# Altium footprint library MLACHT_Z.PCBLIB: 150 footprints (part 9 of 10)
Each footprint in its own frame and in the unit in brackets; x right, y up, seen from the top. Pads: shape width x height; smd on the part's side, far side on the other; paste and mask are expansions set on the pad; w line width, h text height; cw(c..) or ccw(c..) is an arc to the next point about the centre after c.
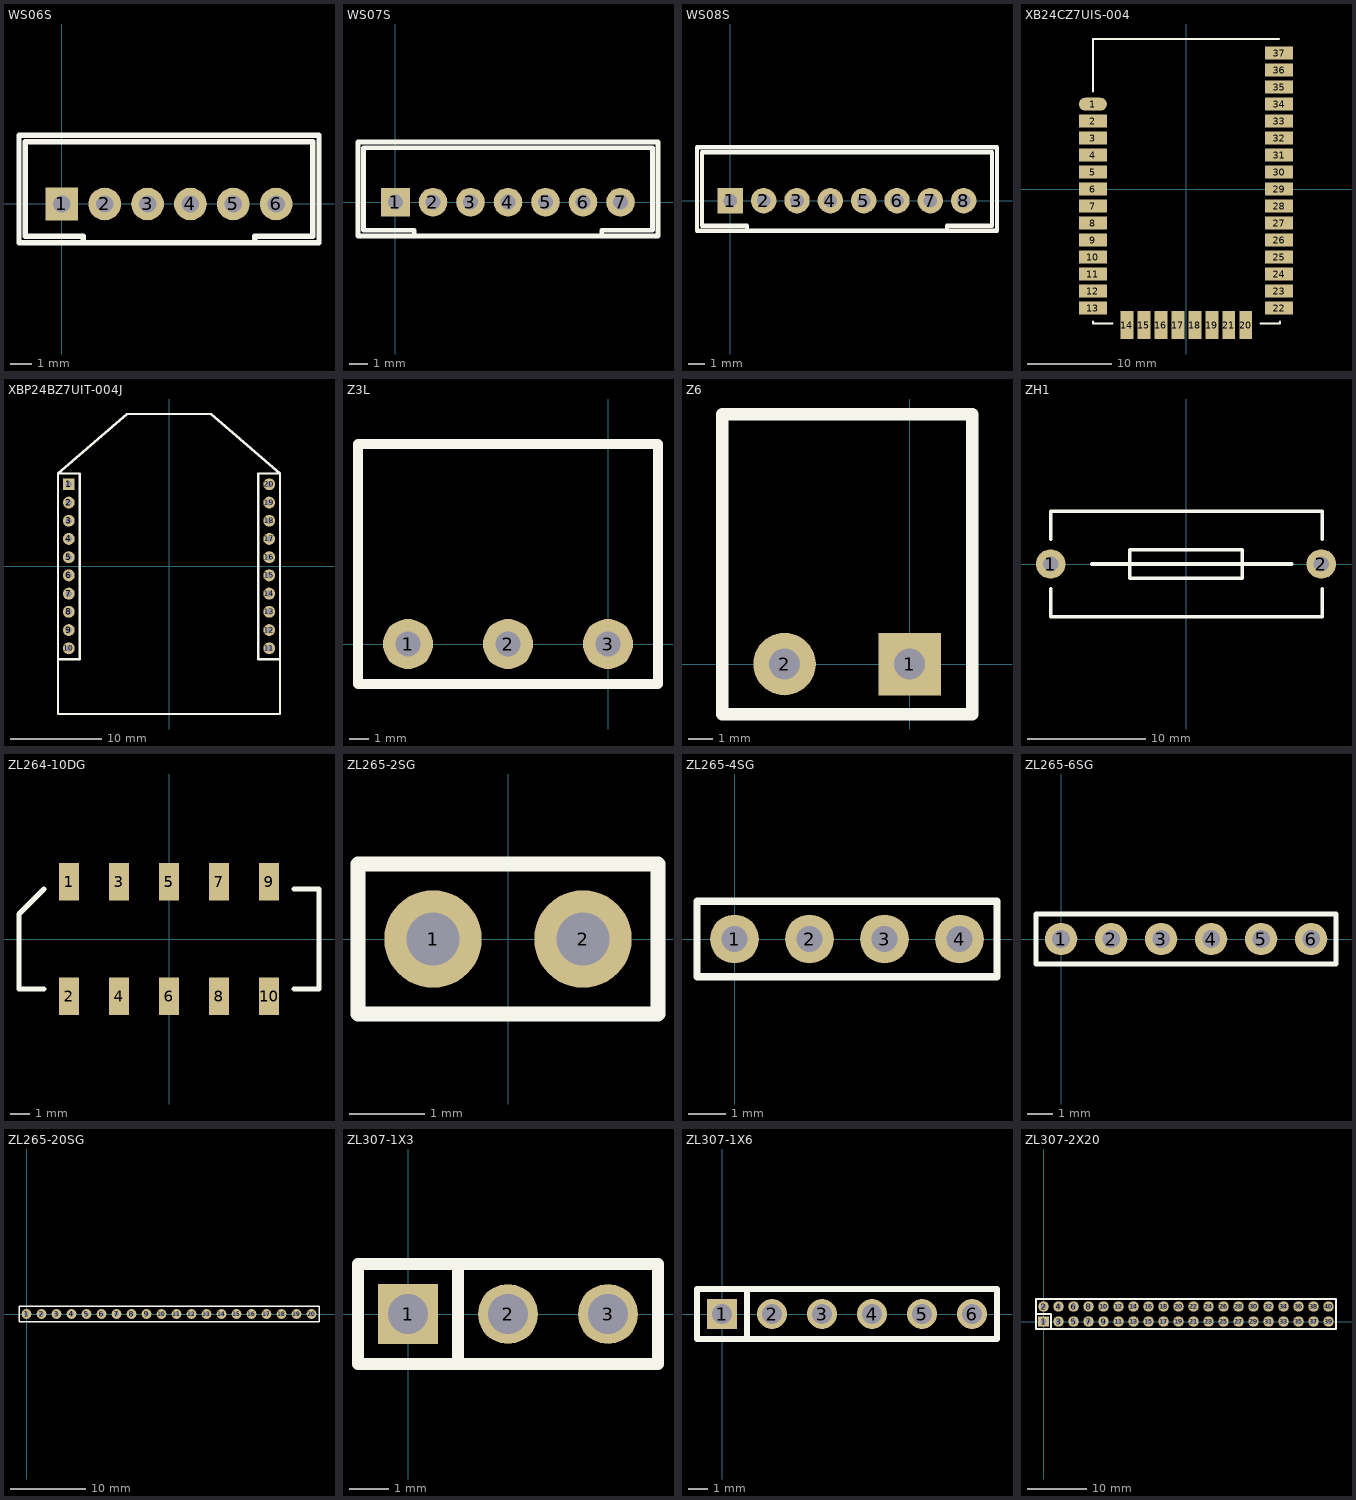
[diagram p8: the footprints below, top view; thin cyan lines are the x and y axes]

## WS06S [mil]
pads (6):
  rect 60x60 hole 32: 1(0,0)
  round 60 hole 32: 2(78.74,0) 3(157.48,0) 4(236.22,0) 5(314.96,0) 6(393.7,0)
TopOverlay:
  lines w10: 39.37,-70.87 39.37,-59.05 -66.93,-59.05 -66.93,114.17 460.63,114.17 460.63,-59.05 354.33,-59.05 354.33,-70.87 ; -78.74,-70.87 472.44,-70.87 472.44,125.98 -78.74,125.98 -78.74,-70.87
3D body: height 228.35, standoff 0, extent 383.86,-9.84 403.54,9.84
3D body: height 228.35, standoff 0, extent 305.12,-9.84 324.8,9.84
3D body: height 228.35, standoff 0, extent 226.38,-9.84 246.06,9.84
3D body: height 228.35, standoff 0, extent 147.64,-9.84 167.32,9.84
3D body: height 228.35, standoff 0, extent 68.9,-9.84 88.58,9.84
3D body: height 228.35, standoff 0, extent -9.84,-9.84 9.84,9.84
3D body: height 236.22, standoff 0, extent -78.74,-70.87 472.44,125.98
3D body: height 78.74, standoff 0, extent -78.74,-70.87 472.44,125.98

## WS07S [mil]
pads (7):
  rect 60x60 hole 32: 1(0,0)
  round 60 hole 32: 2(78.74,0) 3(157.48,0) 4(236.22,0) 5(314.96,0) 6(393.7,0) 7(472.44,0)
TopOverlay:
  lines w10: 39.37,-70.87 39.37,-59.05 -66.93,-59.05 -66.93,114.17 539.37,114.17 539.37,-59.05 433.07,-59.05 433.07,-70.87 ; -78.74,-70.87 551.18,-70.87 551.18,125.98 -78.74,125.98 -78.74,-70.87
3D body: height 228.35, standoff 0, extent 462.6,-9.84 482.28,9.84
3D body: height 228.35, standoff 0, extent 383.86,-9.84 403.54,9.84
3D body: height 228.35, standoff 0, extent 305.12,-9.84 324.8,9.84
3D body: height 228.35, standoff 0, extent 226.38,-9.84 246.06,9.84
3D body: height 228.35, standoff 0, extent 147.64,-9.84 167.32,9.84
3D body: height 228.35, standoff 0, extent 68.9,-9.84 88.58,9.84
3D body: height 228.35, standoff 0, extent -9.84,-9.84 9.84,9.84
3D body: height 236.22, standoff 0, extent -78.74,-70.87 551.18,125.98
3D body: height 78.74, standoff 0, extent -78.74,-70.87 551.18,125.98

## WS08S [mil]
pads (8):
  rect 60x60 hole 32: 1(0,0)
  round 60 hole 32: 2(78.74,0) 3(157.48,0) 4(236.22,0) 5(314.96,0) 6(393.7,0) 7(472.44,0) 8(551.18,0)
TopOverlay:
  lines w10: 39.37,-70.87 39.37,-59.05 -66.93,-59.05 -66.93,114.17 618.11,114.17 618.11,-59.05 511.81,-59.05 511.81,-70.87 ; -78.74,-70.87 629.92,-70.87 629.92,125.98 -78.74,125.98 -78.74,-70.87
3D body: height 228.35, standoff 0, extent 541.34,-9.84 561.02,9.84
3D body: height 228.35, standoff 0, extent 462.6,-9.84 482.28,9.84
3D body: height 228.35, standoff 0, extent 383.86,-9.84 403.54,9.84
3D body: height 228.35, standoff 0, extent 305.12,-9.84 324.8,9.84
3D body: height 228.35, standoff 0, extent 226.38,-9.84 246.06,9.84
3D body: height 228.35, standoff 0, extent 147.64,-9.84 167.32,9.84
3D body: height 228.35, standoff 0, extent 68.9,-9.84 88.58,9.84
3D body: height 228.35, standoff 0, extent -9.84,-9.84 9.84,9.84
3D body: height 236.22, standoff 0, extent -78.74,-70.87 629.92,125.98
3D body: height 78.74, standoff 0, extent -78.74,-70.87 629.92,125.98

## XB24CZ7UIS-004 [mil]
pads (37):
  oval 130x60 smd: 1(-433,395)
  rect 130x60 smd: 2(-433,316) 3(-433,237) 4(-433,158) 5(-433,79) 6(-433,0) 7(-433,-79) 8(-433,-158) 9(-433,-237) 10(-433,-316) 11(-433,-395) 12(-433,-474) 13(-433,-553) 22(433,-553) 23(433,-474) 24(433,-395) 25(433,-316) 26(433,-237) 27(433,-158) 28(433,-79) 29(433,0) 30(433,79) 31(433,158) 32(433,237) 33(433,316) 34(433,395) 35(433,474) 36(433,553) 37(433,632)
  rect 60x130 smd: 14(-275,-632) 15(-196,-632) 16(-117,-632) 17(-38,-632) 18(41,-632) 19(120,-632) 20(278,-632) 21(199,-632)
TopOverlay:
  lines w10: -433,-615.5 -433,-625.5 -343,-625.5 ; -433,454.5 -433,698 433,698 ; 347,-625.5 437,-625.5 437,-615.5
3D body: height 39.37, standoff 0, extent -433,-625.5 437,704.5
3D body: height 120, standoff 39.37, extent -368,-560.5 372,394.5

## XBP24BZ7UIT-004J [mm]
pads (20):
  rect 1.3x1.3 hole 0.7: 1(-11,9)
  round 1.3 hole 0.7: 2(-11,7) 3(-11,5) 4(-11,3) 5(-11,1) 6(-11,-1) 7(-11,-3) 8(-11,-5) 9(-11,-7) 10(-11,-9) 11(11,-9) 12(11,-7) 13(11,-5) 14(11,-3) 15(11,-1) 16(11,1) 17(11,3) 18(11,5) 19(11,7) 20(11,9)
TopOverlay:
  lines w0.254: -12.192,-10.21 -9.792,-10.21 -9.792,10.19 -12.192,10.19 ; 12.192,-10.21 9.792,-10.21 9.792,10.19 12.192,10.19 ; -12.192,10.19 -4.602,16.72 4.602,16.72 12.192,10.19 ; -12.192,10.19 -12.192,-16.22 12.192,-16.22 12.192,10.19
3D body: height 2, standoff 0, extent -12.092,-10.21 -9.692,10.19
3D body: height 2, standoff 0, extent 9.692,-10.21 12.092,10.19
3D body: height 2, standoff 0, extent -12.192,-10.21 -9.792,10.19
3D body: height 2.79, standoff 2, extent -12.192,-16.22 12.192,16.72
3D body: height 0, standoff -4.06, extent -11.3,8.7 -10.7,9.3
3D body: height 0, standoff -4.06, extent -11.3,6.7 -10.7,7.3
3D body: height 0, standoff -4.06, extent -11.3,4.7 -10.7,5.3
3D body: height 0, standoff -4.06, extent -11.3,2.7 -10.7,3.3
3D body: height 0, standoff -4.06, extent -11.3,0.7 -10.7,1.3
3D body: height 0, standoff -4.06, extent -11.3,-1.3 -10.7,-0.7
3D body: height 0, standoff -4.06, extent -11.3,-3.3 -10.7,-2.7
3D body: height 0, standoff -4.06, extent -11.3,-5.3 -10.7,-4.7
3D body: height 0, standoff -4.06, extent -11.3,-7.3 -10.7,-6.7
3D body: height 0, standoff -4.06, extent -11.3,-9.3 -10.7,-8.7
3D body: height 0, standoff -4.06, extent 10.7,-9.3 11.3,-8.7
3D body: height 0, standoff -4.06, extent 10.7,-7.3 11.3,-6.7
3D body: height 0, standoff -4.06, extent 10.7,-5.3 11.3,-4.7
3D body: height 0, standoff -4.06, extent 10.7,-3.3 11.3,-2.7
3D body: height 0, standoff -4.06, extent 10.7,-1.3 11.3,-0.7
3D body: height 0, standoff -4.06, extent 10.7,0.7 11.3,1.3
3D body: height 0, standoff -4.06, extent 10.7,2.7 11.3,3.3
3D body: height 0, standoff -4.06, extent 10.7,4.7 11.3,5.3
3D body: height 0, standoff -4.06, extent 10.7,6.7 11.3,7.3
3D body: height 0, standoff -4.06, extent 10.7,8.7 11.3,9.3

## Z3L [mil]
pads (3):
  round 100 hole 50: 1(-400,0) 2(-200,0) 3(0,0)
TopOverlay:
  lines w20: -500,-80 100,-80 100,240 100,400 -500,400 -500,-80

## Z6 [mil]
pads (2):
  rect 100x100 hole 50: 1(0,0)
  round 100 hole 50: 2(-200,0)
TopOverlay:
  lines w20: -300,-80 -300,400 100,400 100,0 100,-80 -300,-80

## ZH1 [mm]
pads (2):
  round 2.5 hole 1.3: 1(-11.5,0) 2(11.5,0)
TopOverlay:
  lines w0.3: -11.5,-2.1 -11.5,-4.5 11.6,-4.5 11.6,-2.1 ; -11.5,2.1 -11.5,4.5 11.6,4.5 11.6,2.1 ; -8,0 9,0 ; -4.8,-1.2 4.8,-1.2 4.8,1.2 -4.8,1.2 -4.8,-1.2
3D body: height 4.5, standoff 0, extent -11.5,-4.5 11.6,4.5
3D body: height 12, standoff 2, extent 6.5,2 11.5,2.3
3D body: height 12, standoff 2, extent 6.5,-2.3 11.5,-2
3D body: height 12, standoff 2, extent -11.5,-2.3 -6.5,-2
3D body: height 12, standoff 2, extent -11.5,2 -6.5,2.3

## ZL264-10DG [mil]
pads (10):
  rect 40x75 smd: 1(-200,114.17) 2(-200,-114.17) 3(-100,114.17) 4(-100,-114.17) 5(0,114.17) 6(0,-114.17) 7(100,114.17) 8(100,-114.17) 9(200,114.17) 10(200,-114.17)
TopOverlay:
  lines w10: -250,-100 -300,-100 -300,50 -250,100 ; 250,-100 300,-100 300,100 250,100

## ZL265-2SG [mm]
pads (2):
  round 1.3 hole 0.7: 1(-1,0) 2(1,0)
TopOverlay:
  lines w0.2: -2,-1 2,-1 2,1 -2,1 -2,-1
3D body: height 3, standoff -2, extent 0.7,-0.3 1.298,0.299
3D body: height 3, standoff -2, extent -1.3,-0.3 -0.702,0.299
3D body: height 4.5, standoff 0, extent -2,-1 -1,1
3D body: height 4.5, standoff 0, extent 1,-1 2,1
3D body: height 4.5, standoff 0, extent -1,-1 0,1
3D body: height 4.5, standoff 0, extent 0,-1 1,1

## ZL265-4SG [mm]
pads (4):
  round 1.3 hole 0.7: 1(0,0) 2(2,0) 3(4,0) 4(6,0)
TopOverlay:
  lines w0.2: -1,-1 -1,1 7,1 7,-1 -1,-1
3D body: height 3, standoff -2, extent 5.7,-0.3 6.298,0.299
3D body: height 3, standoff -2, extent 3.7,-0.3 4.298,0.299
3D body: height 4.5, standoff 0, extent 3,-1 4,1
3D body: height 4.5, standoff 0, extent 6,-1 7,1
3D body: height 4.5, standoff 0, extent 4,-1 5,1
3D body: height 4.5, standoff 0, extent 5,-1 6,1
3D body: height 4.5, standoff 0, extent 1,-1 2,1
3D body: height 4.5, standoff 0, extent 0,-1 1,1
3D body: height 4.5, standoff 0, extent 2,-1 3,1
3D body: height 4.5, standoff 0, extent -1,-1 0,1
3D body: height 3, standoff -2, extent -0.3,-0.3 0.298,0.299
3D body: height 3, standoff -2, extent 1.7,-0.3 2.298,0.299

## ZL265-6SG [mm]
pads (6):
  round 1.3 hole 0.7: 1(0,0) 2(2,0) 3(4,0) 4(6,0) 5(8,0) 6(10,0)
TopOverlay:
  lines w0.2: -1,-1 -1,1 11,1 11,-1 -1,-1
3D body: height 3, standoff -2, extent 5.7,-0.3 6.298,0.299
3D body: height 3, standoff -2, extent 3.7,-0.3 4.298,0.299
3D body: height 4.5, standoff 0, extent 3,-1 4,1
3D body: height 4.5, standoff 0, extent 6,-1 7,1
3D body: height 4.5, standoff 0, extent 4,-1 5,1
3D body: height 4.5, standoff 0, extent 5,-1 6,1
3D body: height 4.5, standoff 0, extent 1,-1 2,1
3D body: height 4.5, standoff 0, extent 0,-1 1,1
3D body: height 4.5, standoff 0, extent 2,-1 3,1
3D body: height 4.5, standoff 0, extent -1,-1 0,1
3D body: height 3, standoff -2, extent -0.3,-0.3 0.298,0.299
3D body: height 3, standoff -2, extent 1.7,-0.3 2.298,0.299
3D body: height 3, standoff -2, extent 9.7,-0.3 10.298,0.299
3D body: height 3, standoff -2, extent 7.7,-0.3 8.298,0.299
3D body: height 4.5, standoff 0, extent 7,-1 8,1
3D body: height 4.5, standoff 0, extent 10,-1 11,1
3D body: height 4.5, standoff 0, extent 8,-1 9,1
3D body: height 4.5, standoff 0, extent 9,-1 10,1

## ZL265-20SG [mm]
pads (20):
  round 1.3 hole 0.7: 1(0,0) 2(2,0) 3(4,0) 4(6,0) 5(8,0) 6(10,0) 7(12,0) 8(14,0) 9(16,0) 10(18,0) 11(20,0) 12(22,0) 13(24,0) 14(26,0) 15(28,0) 16(30,0) 17(32,0) 18(34,0) 19(36,0) 20(38,0)
TopOverlay:
  lines w0.2: -1,-1 -1,1 39,1 39,-1 -1,-1
3D body: height 3, standoff -2, extent 5.7,-0.3 6.298,0.299
3D body: height 3, standoff -2, extent 3.7,-0.3 4.298,0.299
3D body: height 4.5, standoff 0, extent 3,-1 4,1
3D body: height 4.5, standoff 0, extent 6,-1 7,1
3D body: height 4.5, standoff 0, extent 4,-1 5,1
3D body: height 4.5, standoff 0, extent 5,-1 6,1
3D body: height 4.5, standoff 0, extent 1,-1 2,1
3D body: height 4.5, standoff 0, extent 0,-1 1,1
3D body: height 4.5, standoff 0, extent 2,-1 3,1
3D body: height 4.5, standoff 0, extent -1,-1 0,1
3D body: height 3, standoff -2, extent -0.3,-0.3 0.298,0.299
3D body: height 3, standoff -2, extent 1.7,-0.3 2.298,0.299
3D body: height 3, standoff -2, extent 9.7,-0.3 10.298,0.299
3D body: height 3, standoff -2, extent 7.7,-0.3 8.298,0.299
3D body: height 4.5, standoff 0, extent 7,-1 8,1
3D body: height 4.5, standoff 0, extent 10,-1 11,1
3D body: height 4.5, standoff 0, extent 8,-1 9,1
3D body: height 4.5, standoff 0, extent 9,-1 10,1
3D body: height 4.5, standoff 0, extent 13,-1 14,1
3D body: height 4.5, standoff 0, extent 12,-1 13,1
3D body: height 4.5, standoff 0, extent 14,-1 15,1
3D body: height 4.5, standoff 0, extent 11,-1 12,1
3D body: height 3, standoff -2, extent 11.7,-0.3 12.298,0.299
3D body: height 3, standoff -2, extent 13.7,-0.3 14.298,0.299
3D body: height 3, standoff -2, extent 17.7,-0.3 18.298,0.299
3D body: height 3, standoff -2, extent 15.7,-0.3 16.298,0.299
3D body: height 4.5, standoff 0, extent 15,-1 16,1
3D body: height 4.5, standoff 0, extent 18,-1 19,1
3D body: height 4.5, standoff 0, extent 16,-1 17,1
3D body: height 4.5, standoff 0, extent 17,-1 18,1
3D body: height 4.5, standoff 0, extent 21,-1 22,1
3D body: height 4.5, standoff 0, extent 20,-1 21,1
3D body: height 4.5, standoff 0, extent 22,-1 23,1
3D body: height 4.5, standoff 0, extent 19,-1 20,1
3D body: height 3, standoff -2, extent 19.7,-0.3 20.298,0.299
3D body: height 3, standoff -2, extent 21.7,-0.3 22.298,0.299
3D body: height 3, standoff -2, extent 25.7,-0.3 26.298,0.299
3D body: height 3, standoff -2, extent 23.7,-0.3 24.298,0.299
3D body: height 4.5, standoff 0, extent 23,-1 24,1
3D body: height 4.5, standoff 0, extent 26,-1 27,1
3D body: height 4.5, standoff 0, extent 24,-1 25,1
3D body: height 4.5, standoff 0, extent 25,-1 26,1
3D body: height 4.5, standoff 0, extent 29,-1 30,1
3D body: height 4.5, standoff 0, extent 28,-1 29,1
3D body: height 4.5, standoff 0, extent 30,-1 31,1
3D body: height 4.5, standoff 0, extent 27,-1 28,1
3D body: height 3, standoff -2, extent 27.7,-0.3 28.298,0.299
3D body: height 3, standoff -2, extent 29.7,-0.3 30.298,0.299
3D body: height 3, standoff -2, extent 33.7,-0.3 34.298,0.299
3D body: height 3, standoff -2, extent 31.7,-0.3 32.298,0.299
3D body: height 4.5, standoff 0, extent 31,-1 32,1
3D body: height 4.5, standoff 0, extent 34,-1 35,1
3D body: height 4.5, standoff 0, extent 32,-1 33,1
3D body: height 4.5, standoff 0, extent 33,-1 34,1
3D body: height 4.5, standoff 0, extent 37,-1 38,1
3D body: height 4.5, standoff 0, extent 36,-1 37,1
3D body: height 4.5, standoff 0, extent 38,-1 39,1
3D body: height 4.5, standoff 0, extent 35,-1 36,1
3D body: height 3, standoff -2, extent 35.7,-0.3 36.298,0.299
3D body: height 3, standoff -2, extent 37.7,-0.3 38.298,0.299

## ZL307-1X3 [mil]
pads (3):
  rect 60x60 hole 40: 1(0,0)
  round 60 hole 40: 2(100,0) 3(200,0)
TopOverlay:
  lines w12: 50,-50 50,50 ; -50,-50 250,-50 250,50 -50,50 -50,-50
3D body: height 275.59, standoff 0, extent 0,-50 100,50
3D body: height 275.59, standoff 0, extent 100,-50 200,50
3D body: height 275.59, standoff 0, extent 200,-50 250,50
3D body: height 275.59, standoff -118.11, extent 180,-20 220,20
3D body: height 275.59, standoff -118.11, extent 80,-20 120,20
3D body: height 275.59, standoff -118.11, extent -20,-20 20,20
3D body: height 275.59, standoff 0, extent -50,-50 0,50

## ZL307-1X6 [mil]
pads (6):
  rect 60x60 hole 40: 1(0,0)
  round 60 hole 40: 2(100,0) 3(200,0) 4(300,0) 5(400,0) 6(500,0)
TopOverlay:
  lines w12: 50,-50 50,50 ; -50,-50 -50,50 550,50 550,-50 -50,-50
3D body: height 275.59, standoff 0, extent -50,-50 0,50
3D body: height 275.59, standoff -118.11, extent -20,-20 20,20
3D body: height 275.59, standoff -118.11, extent 80,-20 120,20
3D body: height 275.59, standoff -118.11, extent 180,-20 220,20
3D body: height 275.59, standoff -118.11, extent 280,-20 320,20
3D body: height 275.59, standoff -118.11, extent 380,-20 420,20
3D body: height 275.59, standoff -118.11, extent 480,-20 520,20
3D body: height 275.59, standoff 0, extent 500,-50 550,50
3D body: height 275.59, standoff 0, extent 400,-50 500,50
3D body: height 275.59, standoff 0, extent 300,-50 400,50
3D body: height 275.59, standoff 0, extent 200,-50 300,50
3D body: height 275.59, standoff 0, extent 100,-50 200,50
3D body: height 275.59, standoff 0, extent 0,-50 100,50

## ZL307-2X20 [mil]
pads (40):
  rect 70x70 hole 40: 1(0,0)
  round 70 hole 40: 2(0,100) 3(100,0) 4(100,100) 5(200,0) 6(200,100) 7(300,0) 8(300,100) 9(400,0) 10(400,100) 11(500,0) 12(500,100) 13(600,0) 14(600,100) 15(700,0) 16(700,100) 17(800,0) 18(800,100) 19(900,0) 20(900,100) 21(1000,0) 22(1000,100) 23(1100,0) 24(1100,100) 25(1200,0) 26(1200,100) 27(1300,0) 28(1300,100) 29(1400,0) 30(1400,100) 31(1500,0) 32(1500,100) 33(1600,0) 34(1600,100) 35(1700,0) 36(1700,100) 37(1800,0) 38(1800,100) 39(1900,0) 40(1900,100)
TopOverlay:
  lines w12: -50,50 50,50 50,-50 ; -50,-50 1950,-50 1950,150 -50,150 -50,-50
3D body: height 275.59, standoff 0, extent -50,-50 0,50
3D body: height 275.59, standoff 0, extent 0,-50 100,50
3D body: height 275.59, standoff 0, extent 100,-50 200,50
3D body: height 275.59, standoff 0, extent 200,-50 300,50
3D body: height 275.59, standoff 0, extent 300,-50 400,50
3D body: height 275.59, standoff 0, extent 400,-50 500,50
3D body: height 275.59, standoff 0, extent 500,-50 600,50
3D body: height 275.59, standoff 0, extent 600,-50 700,50
3D body: height 275.59, standoff 0, extent 700,-50 800,50
3D body: height 275.59, standoff 0, extent 800,-50 900,50
3D body: height 275.59, standoff 0, extent 900,-50 1000,50
3D body: height 275.59, standoff 0, extent 1000,-50 1100,50
3D body: height 275.59, standoff 0, extent 1100,-50 1200,50
3D body: height 275.59, standoff 0, extent 1200,-50 1300,50
3D body: height 275.59, standoff 0, extent 1300,-50 1400,50
3D body: height 275.59, standoff 0, extent 1400,-50 1500,50
3D body: height 275.59, standoff 0, extent 1500,-50 1600,50
3D body: height 275.59, standoff 0, extent 1600,-50 1700,50
3D body: height 275.59, standoff 0, extent 1700,-50 1800,50
3D body: height 275.59, standoff 0, extent 1800,-50 1900,50
3D body: height 275.59, standoff 0, extent 1900,-50 1950,50
3D body: height 275.59, standoff 0, extent 1900,50 1950,150
3D body: height 275.59, standoff 0, extent 1800,50 1900,150
3D body: height 275.59, standoff 0, extent 1700,50 1800,150
3D body: height 275.59, standoff 0, extent 1600,50 1700,150
3D body: height 275.59, standoff 0, extent 1500,50 1600,150
3D body: height 275.59, standoff 0, extent 1400,50 1500,150
3D body: height 275.59, standoff 0, extent 1300,50 1400,150
3D body: height 275.59, standoff 0, extent 1200,50 1300,150
3D body: height 275.59, standoff 0, extent 1100,50 1200,150
3D body: height 275.59, standoff 0, extent 1000,50 1100,150
3D body: height 275.59, standoff 0, extent 900,50 1000,150
3D body: height 275.59, standoff 0, extent 800,50 900,150
3D body: height 275.59, standoff 0, extent 700,50 800,150
3D body: height 275.59, standoff 0, extent 600,50 700,150
3D body: height 275.59, standoff 0, extent 500,50 600,150
3D body: height 275.59, standoff 0, extent 400,50 500,150
3D body: height 275.59, standoff 0, extent 300,50 400,150
3D body: height 275.59, standoff 0, extent 200,50 300,150
3D body: height 275.59, standoff 0, extent 100,50 200,150
3D body: height 275.59, standoff 0, extent 0,50 100,150
3D body: height 275.59, standoff -118.11, extent -20,80 20,120
3D body: height 275.59, standoff 0, extent -50,50 0,150
3D body: height 275.59, standoff -118.11, extent -20,-20 20,20
3D body: height 275.59, standoff -118.11, extent 80,80 120,120
3D body: height 275.59, standoff -118.11, extent 80,-20 120,20
3D body: height 275.59, standoff -118.11, extent 180,80 220,120
3D body: height 275.59, standoff -118.11, extent 180,-20 220,20
3D body: height 275.59, standoff -118.11, extent 280,80 320,120
3D body: height 275.59, standoff -118.11, extent 280,-20 320,20
3D body: height 275.59, standoff -118.11, extent 380,80 420,120
3D body: height 275.59, standoff -118.11, extent 380,-20 420,20
3D body: height 275.59, standoff -118.11, extent 480,80 520,120
3D body: height 275.59, standoff -118.11, extent 480,-20 520,20
3D body: height 275.59, standoff -118.11, extent 580,80 620,120
3D body: height 275.59, standoff -118.11, extent 580,-20 620,20
3D body: height 275.59, standoff -118.11, extent 680,80 720,120
3D body: height 275.59, standoff -118.11, extent 680,-20 720,20
3D body: height 275.59, standoff -118.11, extent 780,80 820,120
3D body: height 275.59, standoff -118.11, extent 780,-20 820,20
3D body: height 275.59, standoff -118.11, extent 880,80 920,120
3D body: height 275.59, standoff -118.11, extent 880,-20 920,20
3D body: height 275.59, standoff -118.11, extent 980,80 1020,120
3D body: height 275.59, standoff -118.11, extent 980,-20 1020,20
3D body: height 275.59, standoff -118.11, extent 1080,80 1120,120
3D body: height 275.59, standoff -118.11, extent 1080,-20 1120,20
3D body: height 275.59, standoff -118.11, extent 1180,80 1220,120
3D body: height 275.59, standoff -118.11, extent 1180,-20 1220,20
3D body: height 275.59, standoff -118.11, extent 1280,80 1320,120
3D body: height 275.59, standoff -118.11, extent 1280,-20 1320,20
3D body: height 275.59, standoff -118.11, extent 1380,80 1420,120
3D body: height 275.59, standoff -118.11, extent 1380,-20 1420,20
3D body: height 275.59, standoff -118.11, extent 1480,80 1520,120
3D body: height 275.59, standoff -118.11, extent 1480,-20 1520,20
3D body: height 275.59, standoff -118.11, extent 1580,80 1620,120
3D body: height 275.59, standoff -118.11, extent 1580,-20 1620,20
3D body: height 275.59, standoff -118.11, extent 1680,80 1720,120
3D body: height 275.59, standoff -118.11, extent 1680,-20 1720,20
3D body: height 275.59, standoff -118.11, extent 1780,80 1820,120
3D body: height 275.59, standoff -118.11, extent 1780,-20 1820,20
3D body: height 275.59, standoff -118.11, extent 1880,80 1920,120
3D body: height 275.59, standoff -118.11, extent 1880,-20 1920,20